# Altium footprint library Footprints.PcbLib: 31 footprints (part 1 of 2)
Each footprint in its own frame and in the unit in brackets; x right, y up, seen from the top. Pads: shape width x height; smd on the part's side, far side on the other; paste and mask are expansions set on the pad; w line width, h text height; cw(c..) or ccw(c..) is an arc to the next point about the centre after c.
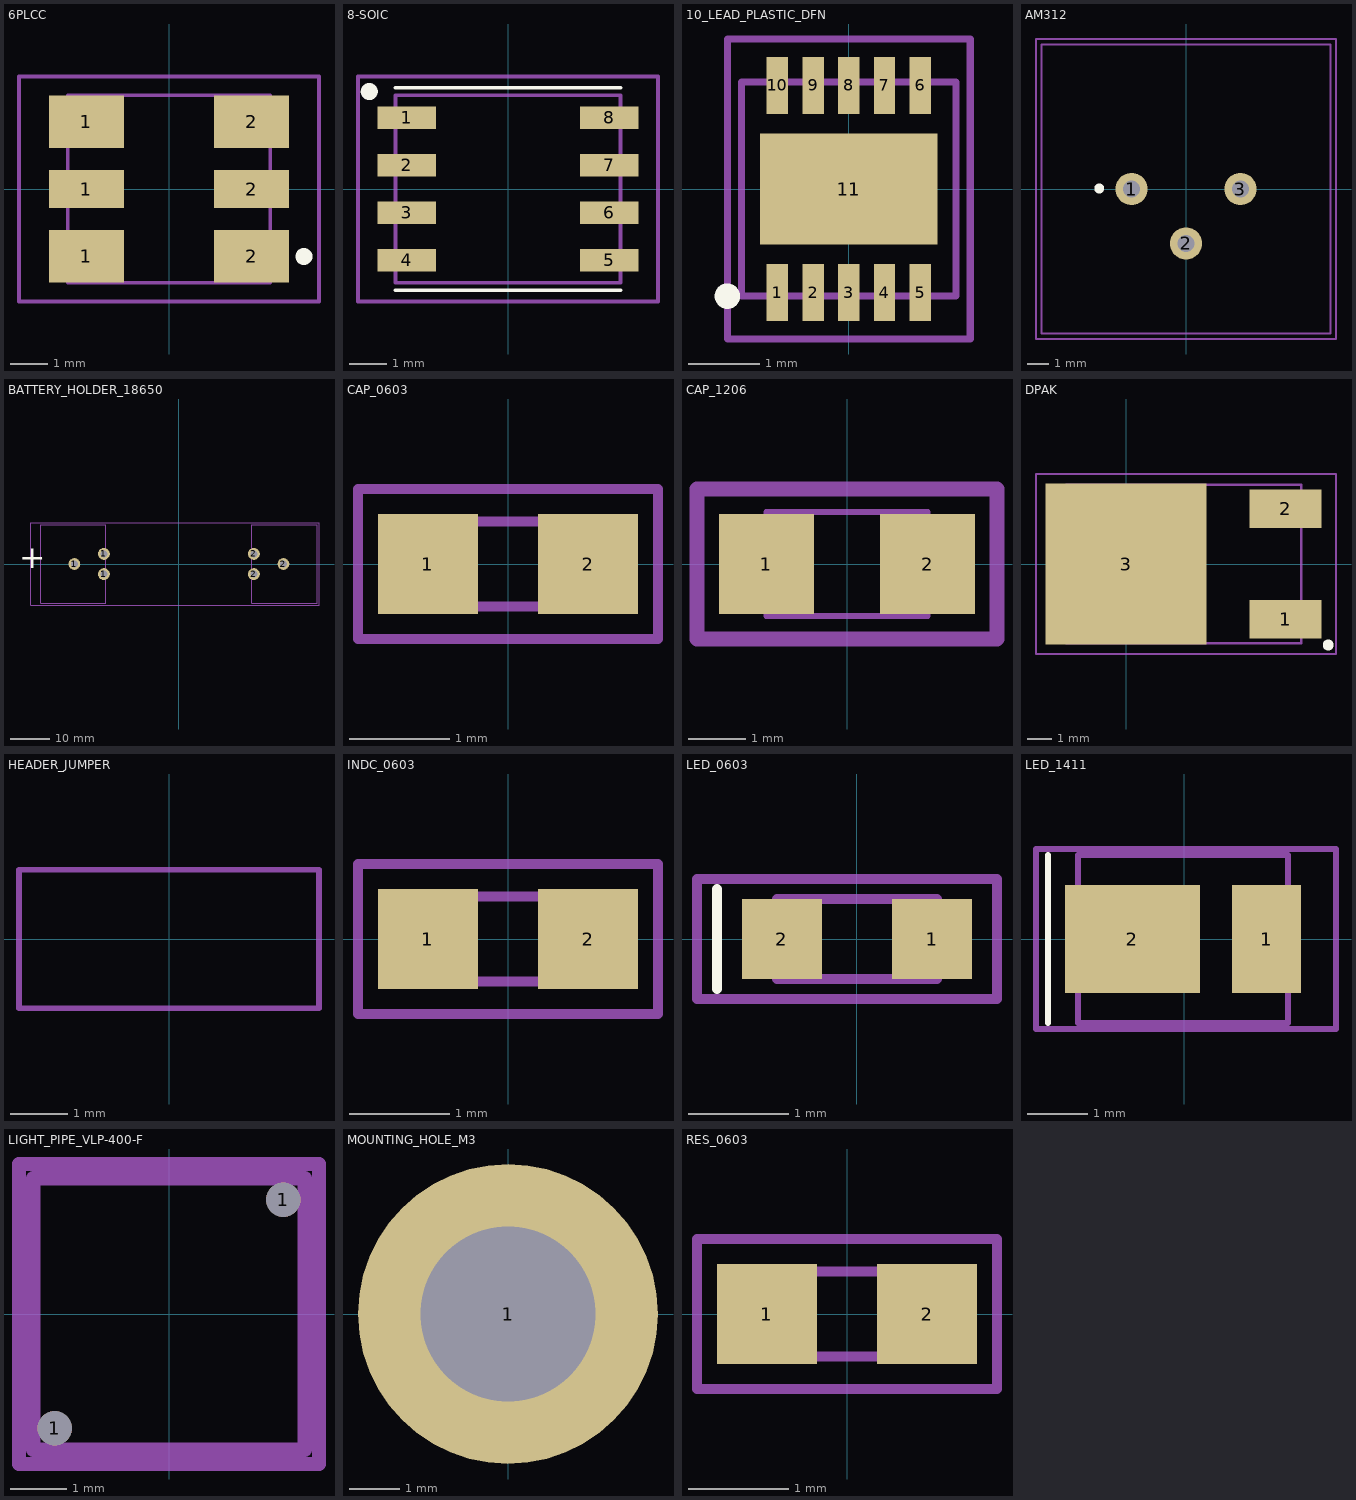
[diagram p0: the footprints below, top view; thin cyan lines are the x and y axes]

## 6PLCC [mm]
pads (6):
  rect 2x1.4 smd: 1(-2.2,-1.8) 1(-2.2,1.8) 2(2.2,-1.8) 2(2.2,1.8)
  rect 2x1 smd: 1(-2.2,0) 2(2.2,0)
Top Overlay:
  circle w0.254: c3.6,-1.8 r0.1
Top Assembly:
  lines w0.1: -2.7,-2.5 2.7,-2.5 2.7,2.5 -2.7,2.5 -2.7,-2.5
  text ".Designator" at -2.5,-0.133 h0.5
Top Courtyard:
  lines w0.1: -4,-3 -4,3 4,3 4,-3 -4,-3
3D body "QBLP679E-IWK-NW.step": height 1.6, standoff 0, extent -2.7,-2.5 2.7,2.5

## 8-SOIC [mm]
pads (8):
  rect 1.55x0.6 smd: 1(-2.7,1.905) 2(-2.7,0.635) 3(-2.7,-0.635) 4(-2.7,-1.905) 5(2.7,-1.905) 6(2.7,-0.635) 7(2.7,0.635) 8(2.7,1.905)
Top Overlay:
  lines w0.1: -3,-2.7 3,-2.7 ; -3,2.7 3,2.7
  lines w0.254: -3.613,2.55 cw(c-3.7,2.6) -3.6,2.6
Top Assembly:
  lines w0.1: -3,-2.5 3,-2.5 3,2.5 -3,2.5 -3,-2.5
  text ".Designator" at -2.9,-0.225 h0.52
Top Courtyard:
  lines w0.1: -4,-3 -4,3 4,3 4,-3 -4,-3
3D body "LM555CM_NOPB.STEP": height 1.75, standoff 0, extent -3,-2.45 3,2.45

## 10_LEAD_PLASTIC_DFN [mm]
pads (11):
  rect 0.3x0.8 smd mask+0.022: 1(-1,-1.45) 2(-0.5,-1.45) 3(0,-1.45) 4(0.5,-1.45) 5(1,-1.45) 6(1,1.45) 7(0.5,1.45) 8(0,1.45) 9(-0.5,1.45) 10(-1,1.45)
  rect 2.48x1.55 smd paste-2539.97: 11(0,0)
Top Overlay:
  circle w0.254: c-1.7,-1.5 r0.05
Top Paste:
  rectangle: -1.175,0.05 -0.15,0.7
  region: 1.175,-0.05 0.15,-0.05 0.15,-0.7 1.175,-0.7
  region: 1.174,0.7 0.15,0.7 0.15,0.05 1.174,0.05
  rectangle: -1.174,-0.7 -0.15,-0.05
Top Assembly:
  lines w0.1: -1.5,-1.5 1.5,-1.5 1.5,1.5 -1.5,1.5 -1.5,-1.5
  text ".Designator" at -1.01,-0.043 h0.2
Top Courtyard:
  lines w0.1: -1.7,-2.1 -1.7,2.1 1.7,2.1 1.7,-2.1 -1.7,-2.1
3D body "DFN10_3x3MC_MCH.step": height 0.94, standoff 0, extent -1.499,-1.499 1.499,1.499

## AM312 [mm]
pads (3):
  round 1.5 hole 0.8: 1(-2.54,0) 2(0,-2.54) 3(2.54,0)
Top Overlay:
  circle w0.254: c-4.05,0.025 r0.1
Top Assembly:
  lines w0.1: -6.75,-6.75 -6.75,6.75 6.75,6.75 6.75,-6.75 -6.75,-6.75
  text ".Designator" at -4.85,1.233 h1
Top Courtyard:
  lines w0.1: -7,-7 -7,7 7,7 7,-7 -7,-7
3D body "AM312 v1.step": height 10, standoff -5, extent -6.7,-6.697 6.7,6.697

## BATTERY_HOLDER_18650 [mm]
pads (6):
  round 3 hole 1.8: 1(-26.5,0) 1(-19,-2.55) 1(-19,2.55) 2(19,-2.55) 2(19,2.55) 2(26.5,0)
Top Overlay:
  text "+" at -40.525,-3.013 h10
Top Assembly:
  lines w0.1: -35,-10 -35,10 ; -35,-10 -18.5,-10 ; -35,-10 -35,10 ; -35,-10 -18.5,-10 ; -35,10 -18.5,10 ; -35,10 -18.5,10 ; -18.5,-10 -18.5,10 ; -18.5,-10 -18.5,10 ; 18.5,-10 35,-10 35,10 18.5,10 18.5,-10
  text ".Designator" at -8.246,-0.238 h1.52
Top Courtyard:
  lines w0.1: -37.5,-10.5 -35.5,-10.5 35.5,-10.5 35.5,10.5 -35.5,10.5 -37.5,10.5 -37.5,5.25 -37.5,-5.25 -37.5,-10.5
3D body "12BHC186CLP-GR.stp": height 19.43, standoff -3.41, extent -34.873,-9.58 -18.706,9.58
3D body "12BHC186CLP-GR.stp": height 19.43, standoff -3.41, extent 18.706,-9.58 34.873,9.58
3D body "18650 Li Ion Battery.STEP": height 19, standoff 1, extent -32.89,-9 32.89,9

## CAP_0603 [mm]
pads (2):
  rect 1x1 smd: 1(-0.8,0) 2(0.8,0)
Top Assembly:
  lines w0.1: -0.8,-0.425 -0.8,0.425 0.8,0.425 0.8,-0.425 -0.8,-0.425
  text ".Designator" at -1,-0.058 h0.2
Top Courtyard:
  lines w0.1: -1.5,-0.75 1.5,-0.75 1.5,0.75 -1.5,0.75 -1.5,-0.75
3D body: height 0.6, standoff 0, extent -0.5,-0.425 0.5,0.425
3D body: height 0.6, standoff 0, extent -0.8,-0.425 -0.5,0.425
3D body: height 0.6, standoff 0, extent 0.5,-0.425 0.8,0.425

## CAP_1206 [mil]
pads (2):
  rect 65x68 smd: 1(-55,0) 2(55,0)
Top Assembly:
  lines w3.94: -55.12,-35.43 -55.12,35.43 55.12,35.43 55.12,-35.43 -55.12,-35.43
  text ".Designator" at -37.4,-3.28 h7.87
Top Courtyard:
  lines w10: -102.36,-51.18 -102.36,-37.39 -102.36,13.77 -102.36,39.35 -102.36,51.2 102.36,51.18 102.36,-51.18 51.18,-51.18 -51.18,-51.18 -102.36,-51.18
3D body "C1206C104KARACTU.STEP": height 55.12, standoff 0, extent -62.99,-31.5 62.99,31.5

## DPAK [mm]
pads (3):
  rect 3x1.6 smd: 1(6.65,-2.3) 2(6.65,2.3)
  rect 6.7x6.7 smd paste-2539.97: 3(0,0)
Top Overlay:
  circle w0.254: c8.425,-3.375 r0.1
Top Paste:
  region: -0.4,-0.2 -3.1,-0.2 -3.1,-3.1 -0.4,-3.1
  rectangle: -3.1,0.2 -0.4,3.1
  rectangle: 0.4,0.2 3.1,3.1
  region: 3.1,-0.2 0.4,-0.2 0.4,-3.1 3.1,-3.1
Top Assembly:
  lines w0.1: -2.5,-3.3 -2.5,3.3 7.3,3.3 7.3,-3.3 -2.5,-3.3
  text ".Designator" at -3.046,-0.113 h1
Top Courtyard:
  lines w0.1: -3.75,-3.75 8.75,-3.75 8.75,3.75 -3.75,3.75 -3.75,-3.75
3D body "LM317MDT.step": height 2.37, standoff -0.03, extent -2.434,-3.25 7.291,3.25

## HEADER_JUMPER [mm]
Top Assembly:
  lines w0.1: -2.6,-1.2 2.6,-1.2 2.6,1.2 -2.6,1.2 -2.6,-1.2
3D body "Jumper.step": height 8.5, standoff 2.5, extent -2.6,-1.2 2.6,1.2

## INDC_0603 [mm]
pads (2):
  rect 1x1 smd: 1(-0.8,0) 2(0.8,0)
Top Assembly:
  lines w0.1: -0.8,-0.425 -0.8,0.425 0.8,0.425 0.8,-0.425 -0.8,-0.425
  text ".Designator" at -1,-0.058 h0.2
Top Courtyard:
  lines w0.1: -1.5,-0.75 1.5,-0.75 1.5,0.75 -1.5,0.75 -1.5,-0.75
3D body: height 0.6, standoff 0, extent -0.5,-0.425 0.5,0.425
3D body: height 0.6, standoff 0, extent -0.8,-0.425 -0.5,0.425
3D body: height 0.6, standoff 0, extent 0.5,-0.425 0.8,0.425

## LED_0603 [mm]
pads (2):
  rect 0.8x0.8 smd: 1(0.75,0) 2(-0.75,0)
Top Overlay:
  lines w0.1: -1.4,-0.5 -1.4,0.5
Top Assembly:
  lines w0.1: -0.8,-0.4 -0.8,0.4 0.8,0.4 0.8,-0.4 -0.8,-0.4
  text ".Designator" at -0.48,-0.047 h0.1
Top Courtyard:
  lines w0.1: -1.6,-0.6 1.4,-0.6 1.4,0.6 -1.6,0.6 -1.6,0.3 -1.6,-0.3 -1.6,-0.6
3D body "LTST-C190GKT.step": height 0.8, standoff 0, extent -0.8,-0.4 0.8,0.4

## LED_1411 [mm]
pads (2):
  rect 1.15x1.8 smd: 1(1.37,0)
  rect 2.25x1.8 smd: 2(-0.87,0)
Top Overlay:
  lines w0.1: -2.275,-1.4 -2.275,1.4
Top Assembly:
  lines w0.1: -1.775,-1.4 1.725,-1.4 1.725,1.4 -1.775,1.4 -1.775,-1.4
  text ".Designator" at -1.395,-0.07 h0.3
Top Courtyard:
  lines w0.1: -2.475,-1.5 2.525,-1.5 2.525,1.5 -2.475,1.5 -2.475,-1.5
3D body "JB2835BWT-G-U40GA0000-N0000001--3DModel-STEP-1.STEP": height 0.71, standoff 0.01, extent -1.75,-1.4 1.75,1.4

## LIGHT_PIPE_VLP-400-F [mil]
pads (2):
  round 24 hole 24: 1(-80,-80) 1(80,80)
Top Assembly:
  lines w10: -95,-95 -95,95 95,95 95,-95 -95,-95
  text ".DESIGNATOR" at -53,-23 h10
Top Courtyard:
  lines w10: -105,-105 -105,105 105,105 105,-105 -105,-105
3D body "VLP-400-F v1.step": height 400.5, standoff -59.5, extent -92.5,-92 92.5,93

## MOUNTING_HOLE_M3 [mm]
pads (1):
  round 6 hole 3.5: 1(0,0)

## PCBComponent_1 [mm]

## RES_0603 [mm]
pads (2):
  rect 1x1 smd: 1(-0.8,0) 2(0.8,0)
Top Assembly:
  lines w0.1: -0.8,-0.425 -0.8,0.425 0.8,0.425 0.8,-0.425 -0.8,-0.425
  text ".Designator" at -1,-0.058 h0.2
Top Courtyard:
  lines w0.1: -1.5,-0.75 1.5,-0.75 1.5,0.75 -1.5,0.75 -1.5,-0.75
3D body: height 0.6, standoff 0, extent -0.5,-0.425 0.5,0.425
3D body: height 0.6, standoff 0, extent -0.8,-0.425 -0.5,0.425
3D body: height 0.6, standoff 0, extent 0.5,-0.425 0.8,0.425